# Altium footprint library BUTTON_FOOTPRINT.PcbLib: 1 footprints
Each footprint in its own frame and in the unit in brackets; x right, y up, seen from the top. Pads: shape width x height; smd on the part's side, far side on the other; paste and mask are expansions set on the pad; w line width, h text height; cw(c..) or ccw(c..) is an arc to the next point about the centre after c.
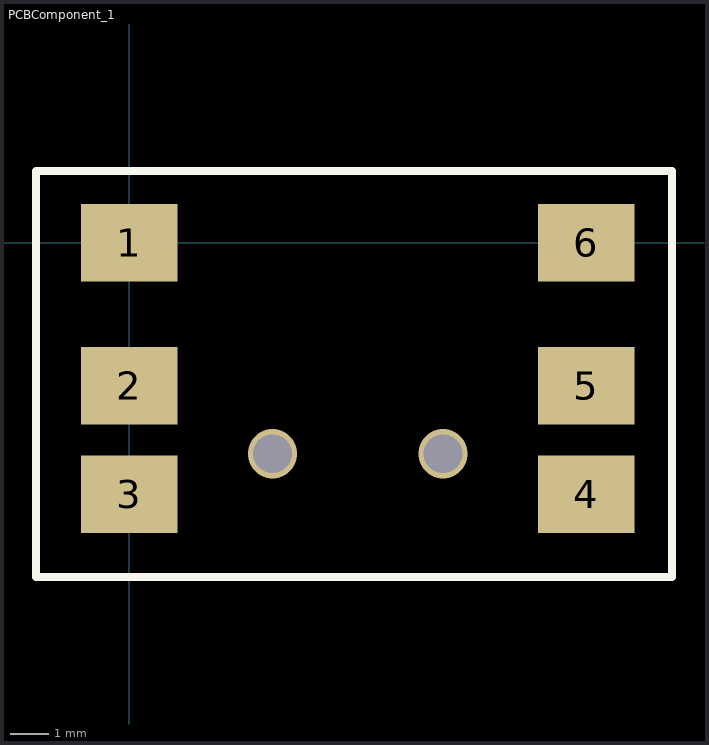
[diagram p0: the footprint, top view; thin cyan lines are the x and y axes]

## PCBComponent_1 [mm]
pads (6):
  rect 2.5x2 smd mask+0.051: 1(0,0) 2(0,-3.7) 3(0,-6.5) 4(11.8,-6.5) 5(11.8,-3.7) 6(11.8,0)
via 8.1,-5.45 diameter 1.27 hole 1
via 3.7,-5.45 diameter 1.27 hole 1
Top Overlay:
  lines w0.203: -2.413,-8.636 14.021,-8.636 14.021,1.854 -2.413,1.854 -2.413,-8.636